# EAGLE library part SN74AHCT125PWR (library SN74AHCT125PWR)
Check availability <https://pricing.snapeda.com/parts/SN74AHCT125PWR/Texas%20Instruments/view-part?ref=eda>
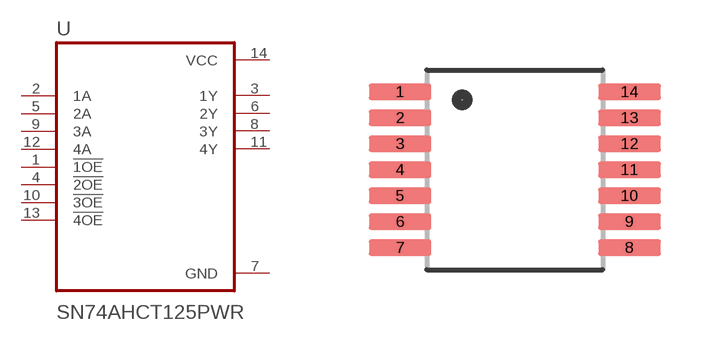
[diagram p0: symbol with the pads of SOP65P640X120-14N; footprint SOP65P640X120-14N]

Designator prefix U

## SN74AHCT125PWR (AVAILABILITY: In Stock; DESCRIPTION: Quadruple Bus Buffer Gates With 3-State Outputs 14-TSSOP -40 to 125; MF: Texas Instruments; MP: SN74AHCT125PWR; PACKAGE: TSSOP-14 Texas Instruments; PRICE: None; PURCHASE-URL: https://pricing.snapeda.com/search/part/SN74AHCT125PWR/?ref=eda)  [SOP65P640X120-14N]
1  !1OE  in
2  1A  in
3  1Y  out
4  !2OE  in
5  2A  in
6  2Y  out
7  GND  pwr
8  3Y  out
9  3A  in
10  !3OE  in
11  4Y  out
12  4A  in
13  !4OE  in
14  VCC  pwr

## Footprint SOP65P640X120-14N (pad centres in mm)
smd 1.57 x 0.41: 1 -2.87,1.95; 2 -2.87,1.3; 3 -2.87,0.65; 4 -2.87,0; 5 -2.87,-0.65; 6 -2.87,-1.3; 7 -2.87,-1.95; 8 2.87,-1.95; 9 2.87,-1.3; 10 2.87,-0.65; 11 2.87,0; 12 2.87,0.65; 13 2.87,1.3; 14 2.87,1.95